# EAGLE library part SN65HVD30 (library alvie)
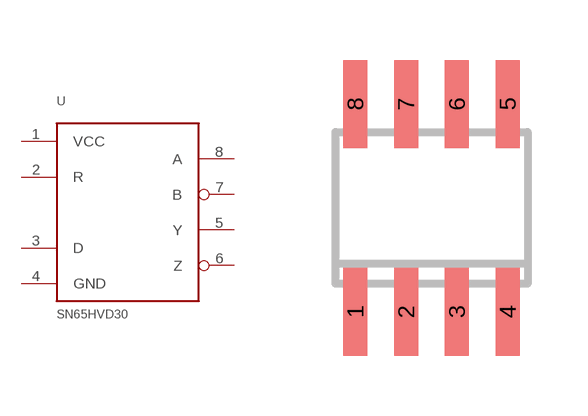
[diagram p49: symbol with the pads of SOIC8; footprint SOIC8]

Designator prefix -

## SN65HVD30  [SOIC8]
1  VCC  pwr
2  R  out
3  D  in
4  GND  pwr
5  Y  pas
6  Z  pas
7  B  pas
8  A  pas

## Footprint SOIC8 (pad centres in mm)
smd 0.6 x 2.2: 1 -1.905,-2.6; 2 -0.635,-2.6; 3 0.635,-2.6; 4 1.905,-2.6; 5 1.905,2.6; 6 0.635,2.6; 7 -0.635,2.6; 8 -1.905,2.6